# Altium footprint library WURTH_74437529203330.PcbLib: 1 footprints
Each footprint in its own frame and in the unit in brackets; x right, y up, seen from the top. Pads: shape width x height; smd on the part's side, far side on the other; paste and mask are expansions set on the pad; w line width, h text height; cw(c..) or ccw(c..) is an arc to the next point about the centre after c.
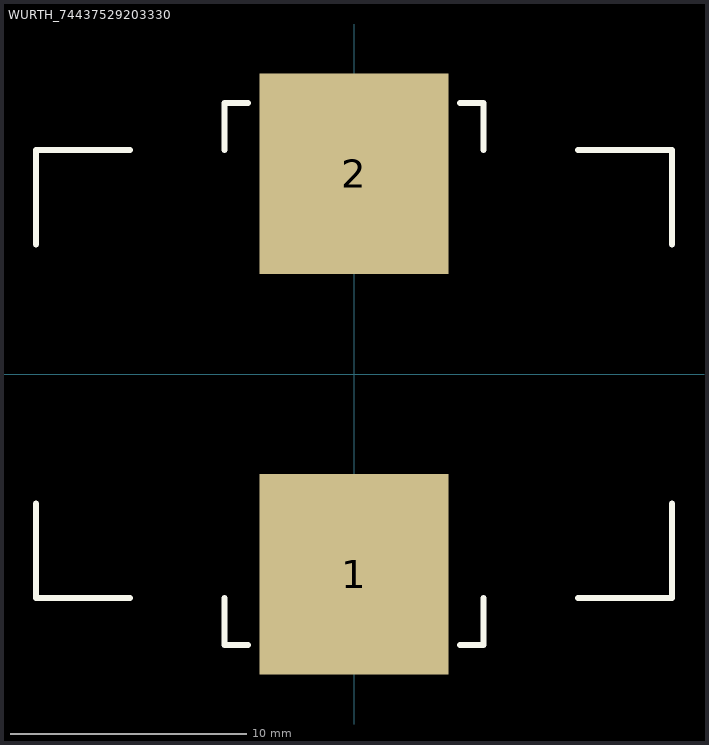
[diagram p0: the footprint, top view; thin cyan lines are the x and y axes]

## WURTH_74437529203330 [mm]
pads (2):
  rect 8x8.5 smd: 1(0,-8.5) 2(0,8.5)
Top Overlay:
  lines w0.254: -13.5,-5.5 -13.5,-9.5 -9.5,-9.5 ; -13.5,5.5 -13.5,9.5 -9.5,9.5 ; -5.5,-9.5 -5.5,-11.5 -4.5,-11.5 ; -5.5,9.5 -5.5,11.5 -4.5,11.5 ; 4.5,-11.5 5.5,-11.5 5.5,-9.5 ; 4.5,11.5 5.5,11.5 5.5,9.5 ; 9.5,-9.5 13.5,-9.5 13.5,-5.5 ; 9.5,9.5 13.5,9.5 13.5,5.5
3D body: height 20.5, standoff 0, extent -13.5,-9.5 13.5,9.5